# Altium footprint library TQFP80P.PcbLib: 6 footprints
Each footprint in its own frame and in the unit in brackets; x right, y up, seen from the top. Pads: shape width x height; smd on the part's side, far side on the other; paste and mask are expansions set on the pad; w line width, h text height; cw(c..) or ccw(c..) is an arc to the next point about the centre after c.
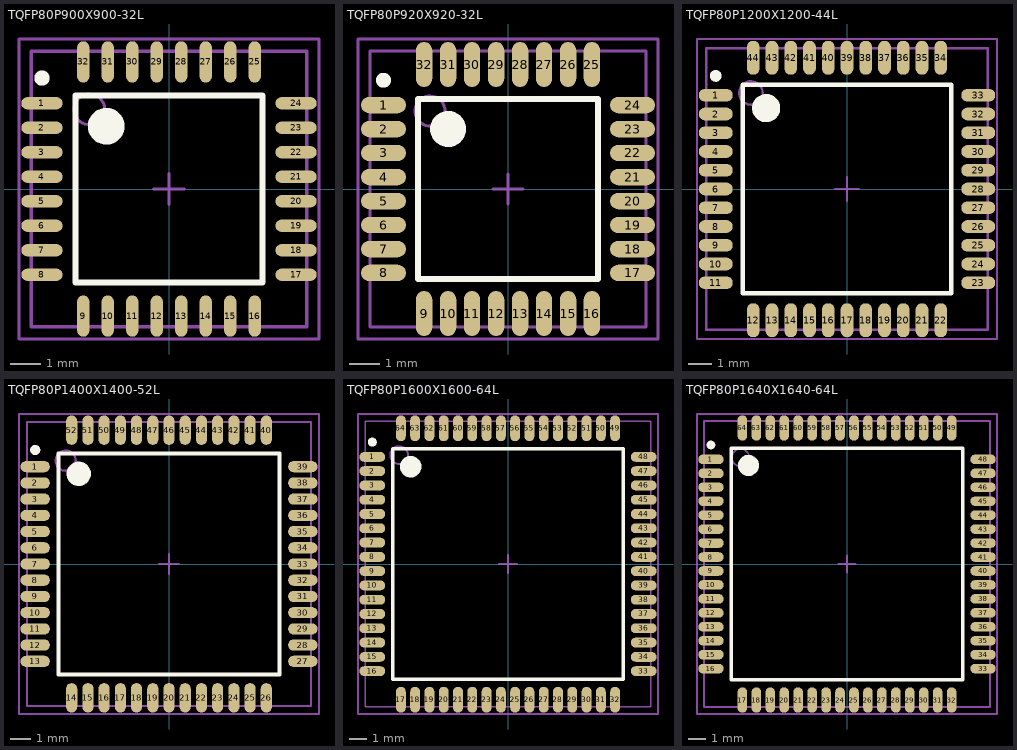
[diagram p0: the footprints below, top view; thin cyan lines are the x and y axes]

## TQFP80P900X900-32L [mm] "Thin QFP, 32-Leads, Body 7x7mm, Pitch 0.8mm, IPC High Density"
height 1.6
pads (32):
  oval 1.35x0.4 smd: 1(-4.15,2.8) 2(-4.15,2) 3(-4.15,1.2) 4(-4.15,0.4) 5(-4.15,-0.4) 6(-4.15,-1.2) 7(-4.15,-2) 8(-4.15,-2.8) 17(4.15,-2.8) 18(4.15,-2) 19(4.15,-1.2) 20(4.15,-0.4) 21(4.15,0.4) 22(4.15,1.2) 23(4.15,2) 24(4.15,2.8)
  oval 0.4x1.35 smd: 9(-2.8,-4.15) 10(-2,-4.15) 11(-1.2,-4.15) 12(-0.4,-4.15) 13(0.4,-4.15) 14(1.2,-4.15) 15(2,-4.15) 16(2.8,-4.15) 25(2.8,4.15) 26(2,4.15) 27(1.2,4.15) 28(0.4,4.15) 29(-0.4,4.15) 30(-1.2,4.15) 31(-2,4.15) 32(-2.8,4.15)
Top Overlay:
  circle w0.25: c-4.15,3.625 r0.125
  circle w0.6: c-2.05,2.05 r0.3
  lines w0.2: -3.05,-3.05 -3.05,3.05 3.05,3.05 3.05,-3.05 -3.05,-3.05
Mechanical 13:
  circle w0.1: c-2.6,2.6 r0.5
  lines w0.1: -4.5,-4.5 -4.5,4.5 4.5,4.5 4.5,-4.5 -4.5,-4.5
Mechanical 15:
  lines w0.1: -0.5,0 0.5,0 ; 0,-0.5 0,0.5 ; -4.9,-4.9 -4.9,4.9 4.9,4.9 4.9,-4.9 -4.9,-4.9
3D body: height 1.1, standoff -0.07, extent -4.5,-4.5 4.5,4.5

## TQFP80P920X920-32L [mm] "Thin QFP, 32-Leads, Body 7x7mm, Pitch 0.8mm, IPC High Density"
height 1.2
pads (32):
  oval 1.5x0.55 smd: 1(-4.15,2.8) 2(-4.15,2) 3(-4.15,1.2) 4(-4.15,0.4) 5(-4.15,-0.4) 6(-4.15,-1.2) 7(-4.15,-2) 8(-4.15,-2.8) 17(4.15,-2.8) 18(4.15,-2) 19(4.15,-1.2) 20(4.15,-0.4) 21(4.15,0.4) 22(4.15,1.2) 23(4.15,2) 24(4.15,2.8)
  oval 0.55x1.5 smd: 9(-2.8,-4.15) 10(-2,-4.15) 11(-1.2,-4.15) 12(-0.4,-4.15) 13(0.4,-4.15) 14(1.2,-4.15) 15(2,-4.15) 16(2.8,-4.15) 25(2.8,4.15) 26(2,4.15) 27(1.2,4.15) 28(0.4,4.15) 29(-0.4,4.15) 30(-1.2,4.15) 31(-2,4.15) 32(-2.8,4.15)
Top Overlay:
  circle w0.25: c-4.15,3.625 r0.125
  circle w0.6: c-2,2 r0.3
  lines w0.2: -3,-3 -3,3 3,3 3,-3 -3,-3
Mechanical 13:
  circle w0.1: c-2.6,2.6 r0.5
  lines w0.1: -4.6,-4.6 -4.6,4.6 4.6,4.6 4.6,-4.6 -4.6,-4.6
Mechanical 15:
  lines w0.1: -0.5,0 0.5,0 ; 0,-0.5 0,0.5 ; -5,-5 -5,5 5,5 5,-5 -5,-5
3D body: height 1.15, standoff 0.05, extent -4.6,-4.6 4.6,4.6

## TQFP80P1200X1200-44L [mm] "Thin QFP, 44-Leads, Body 10x10mm, Pitch 0.8mm, IPC High Density"
height 1.2
pads (44):
  oval 1.45x0.55 smd: 1(-5.6,4) 2(-5.6,3.2) 3(-5.6,2.4) 4(-5.6,1.6) 5(-5.6,0.8) 6(-5.6,0) 7(-5.6,-0.8) 8(-5.6,-1.6) 9(-5.6,-2.4) 10(-5.6,-3.2) 11(-5.6,-4) 23(5.6,-4) 24(5.6,-3.2) 25(5.6,-2.4) 26(5.6,-1.6) 27(5.6,-0.8) 28(5.6,0) 29(5.6,0.8) 30(5.6,1.6) 31(5.6,2.4) 32(5.6,3.2) 33(5.6,4)
  oval 0.55x1.45 smd: 12(-4,-5.6) 13(-3.2,-5.6) 14(-2.4,-5.6) 15(-1.6,-5.6) 16(-0.8,-5.6) 17(0,-5.6) 18(0.8,-5.6) 19(1.6,-5.6) 20(2.4,-5.6) 21(3.2,-5.6) 22(4,-5.6) 34(4,5.6) 35(3.2,5.6) 36(2.4,5.6) 37(1.6,5.6) 38(0.8,5.6) 39(0,5.6) 40(-0.8,5.6) 41(-1.6,5.6) 42(-2.4,5.6) 43(-3.2,5.6) 44(-4,5.6)
Top Overlay:
  circle w0.6: c-3.45,3.45 r0.3
  circle w0.25: c-5.6,4.825 r0.125
  lines w0.2: -4.45,-4.45 4.45,-4.45 4.45,4.45 -4.45,4.45 -4.45,-4.45
Mechanical 13:
  circle w0.1: c-4.1,4.1 r0.5
  lines w0.1: -6,-6 6,-6 6,6 -6,6 -6,-6
Mechanical 15:
  lines w0.1: -0.5,0 0.5,0 ; 0,-0.5 0,0.5 ; -6.4,-6.4 6.4,-6.4 6.4,6.4 -6.4,6.4 -6.4,-6.4
3D body: height 1.01, standoff -0.1, extent -6,-6.031 6.031,6

## TQFP80P1400X1400-52L [mm] "Thin QFP, 52-Leads, Body 12x12mm, Pitch 0.8mm, IPC High Density"
height 1.2
pads (52):
  oval 1.45x0.55 smd: 1(-6.6,4.8) 2(-6.6,4) 3(-6.6,3.2) 4(-6.6,2.4) 5(-6.6,1.6) 6(-6.6,0.8) 7(-6.6,0) 8(-6.6,-0.8) 9(-6.6,-1.6) 10(-6.6,-2.4) 11(-6.6,-3.2) 12(-6.6,-4) 13(-6.6,-4.8) 27(6.6,-4.8) 28(6.6,-4) 29(6.6,-3.2) 30(6.6,-2.4) 31(6.6,-1.6) 32(6.6,-0.8) 33(6.6,0) 34(6.6,0.8) 35(6.6,1.6) 36(6.6,2.4) 37(6.6,3.2) 38(6.6,4) 39(6.6,4.8)
  oval 0.55x1.45 smd: 14(-4.8,-6.6) 15(-4,-6.6) 16(-3.2,-6.6) 17(-2.4,-6.6) 18(-1.6,-6.6) 19(-0.8,-6.6) 20(0,-6.6) 21(0.8,-6.6) 22(1.6,-6.6) 23(2.4,-6.6) 24(3.2,-6.6) 25(4,-6.6) 26(4.8,-6.6) 40(4.8,6.6) 41(4,6.6) 42(3.2,6.6) 43(2.4,6.6) 44(1.6,6.6) 45(0.8,6.6) 46(0,6.6) 47(-0.8,6.6) 48(-1.6,6.6) 49(-2.4,6.6) 50(-3.2,6.6) 51(-4,6.6) 52(-4.8,6.6)
Top Overlay:
  circle w0.6: c-4.45,4.45 r0.3
  circle w0.25: c-6.6,5.625 r0.125
  lines w0.2: -5.45,-5.45 5.45,-5.45 5.45,5.45 -5.45,5.45 -5.45,-5.45
Mechanical 13:
  circle w0.1: c-5.1,5.1 r0.5
  lines w0.1: -7,-7 7,-7 7,7 -7,7 -7,-7
Mechanical 15:
  lines w0.1: -0.5,0 0.5,0 ; 0,-0.5 0,0.5 ; -7.4,-7.4 7.4,-7.4 7.4,7.4 -7.4,7.4 -7.4,-7.4
3D body: height 1.15, standoff 0.05, extent -7,-7 7,7

## TQFP80P1600X1600-64L [mm] "Thin QFP, 64-Leads, Body 14x14mm, Pitch 0.8mm, IPC High Density"
height 1.6
pads (64):
  oval 1.45x0.55 smd: 1(-7.6,6) 2(-7.6,5.2) 3(-7.6,4.4) 4(-7.6,3.6) 5(-7.6,2.8) 6(-7.6,2) 7(-7.6,1.2) 8(-7.6,0.4) 9(-7.6,-0.4) 10(-7.6,-1.2) 11(-7.6,-2) 12(-7.6,-2.8) 13(-7.6,-3.6) 14(-7.6,-4.4) 15(-7.6,-5.2) 16(-7.6,-6) 33(7.6,-6) 34(7.6,-5.2) 35(7.6,-4.4) 36(7.6,-3.6) 37(7.6,-2.8) 38(7.6,-2) 39(7.6,-1.2) 40(7.6,-0.4) 41(7.6,0.4) 42(7.6,1.2) 43(7.6,2) 44(7.6,2.8) 45(7.6,3.6) 46(7.6,4.4) 47(7.6,5.2) 48(7.6,6)
  oval 0.55x1.45 smd: 17(-6,-7.6) 18(-5.2,-7.6) 19(-4.4,-7.6) 20(-3.6,-7.6) 21(-2.8,-7.6) 22(-2,-7.6) 23(-1.2,-7.6) 24(-0.4,-7.6) 25(0.4,-7.6) 26(1.2,-7.6) 27(2,-7.6) 28(2.8,-7.6) 29(3.6,-7.6) 30(4.4,-7.6) 31(5.2,-7.6) 32(6,-7.6) 49(6,7.6) 50(5.2,7.6) 51(4.4,7.6) 52(3.6,7.6) 53(2.8,7.6) 54(2,7.6) 55(1.2,7.6) 56(0.4,7.6) 57(-0.4,7.6) 58(-1.2,7.6) 59(-2,7.6) 60(-2.8,7.6) 61(-3.6,7.6) 62(-4.4,7.6) 63(-5.2,7.6) 64(-6,7.6)
Top Overlay:
  circle w0.25: c-7.6,6.825 r0.125
  circle w0.6: c-5.45,5.45 r0.3
  lines w0.2: -6.45,-6.45 -6.45,6.45 6.45,6.45 6.45,-6.45 -6.45,-6.45
Mechanical 13:
  circle w0.1: c-6.1,6.1 r0.5
  lines w0.1: -8,-8 -8,8 8,8 8,-8 -8,-8
Mechanical 15:
  lines w0.1: -0.5,0 0.5,0 ; 0,-0.5 0,0.5 ; -8.4,-8.4 -8.4,8.4 8.4,8.4 8.4,-8.4 -8.4,-8.4
3D body: height 1.15, standoff 0.05, extent -8,-8 8,8

## TQFP80P1640X1640-64L [mm] "Thin QFP, 64-Leads, Body 14x14mm, Pitch 0.8mm, IPC High Density"
height 1.6
pads (64):
  oval 1.45x0.55 smd: 1(-7.8,6) 2(-7.8,5.2) 3(-7.8,4.4) 4(-7.8,3.6) 5(-7.8,2.8) 6(-7.8,2) 7(-7.8,1.2) 8(-7.8,0.4) 9(-7.8,-0.4) 10(-7.8,-1.2) 11(-7.8,-2) 12(-7.8,-2.8) 13(-7.8,-3.6) 14(-7.8,-4.4) 15(-7.8,-5.2) 16(-7.8,-6) 33(7.8,-6) 34(7.8,-5.2) 35(7.8,-4.4) 36(7.8,-3.6) 37(7.8,-2.8) 38(7.8,-2) 39(7.8,-1.2) 40(7.8,-0.4) 41(7.8,0.4) 42(7.8,1.2) 43(7.8,2) 44(7.8,2.8) 45(7.8,3.6) 46(7.8,4.4) 47(7.8,5.2) 48(7.8,6)
  oval 0.55x1.45 smd: 17(-6,-7.8) 18(-5.2,-7.8) 19(-4.4,-7.8) 20(-3.6,-7.8) 21(-2.8,-7.8) 22(-2,-7.8) 23(-1.2,-7.8) 24(-0.4,-7.8) 25(0.4,-7.8) 26(1.2,-7.8) 27(2,-7.8) 28(2.8,-7.8) 29(3.6,-7.8) 30(4.4,-7.8) 31(5.2,-7.8) 32(6,-7.8) 49(6,7.8) 50(5.2,7.8) 51(4.4,7.8) 52(3.6,7.8) 53(2.8,7.8) 54(2,7.8) 55(1.2,7.8) 56(0.4,7.8) 57(-0.4,7.8) 58(-1.2,7.8) 59(-2,7.8) 60(-2.8,7.8) 61(-3.6,7.8) 62(-4.4,7.8) 63(-5.2,7.8) 64(-6,7.8)
Top Overlay:
  circle w0.6: c-5.65,5.65 r0.3
  circle w0.25: c-7.8,6.825 r0.125
  lines w0.2: -6.65,-6.65 6.65,-6.65 6.65,6.65 -6.65,6.65 -6.65,-6.65
Mechanical 13:
  circle w0.1: c-6.1,6.1 r0.5
  lines w0.1: -8.2,-8.2 8.2,-8.2 8.2,8.2 -8.2,8.2 -8.2,-8.2
Mechanical 15:
  lines w0.1: -0.5,0 0.5,0 ; 0,-0.5 0,0.5 ; -8.6,-8.6 8.6,-8.6 8.6,8.6 -8.6,8.6 -8.6,-8.6
3D body: height 1.15, standoff 0.05, extent -8.2,-8.2 8.2,8.2